# Altium footprint library BC847BPN.PcbLib: 1 footprints
Each footprint in its own frame and in the unit in brackets; x right, y up, seen from the top. Pads: shape width x height; smd on the part's side, far side on the other; paste and mask are expansions set on the pad; w line width, h text height; cw(c..) or ccw(c..) is an arc to the next point about the centre after c.
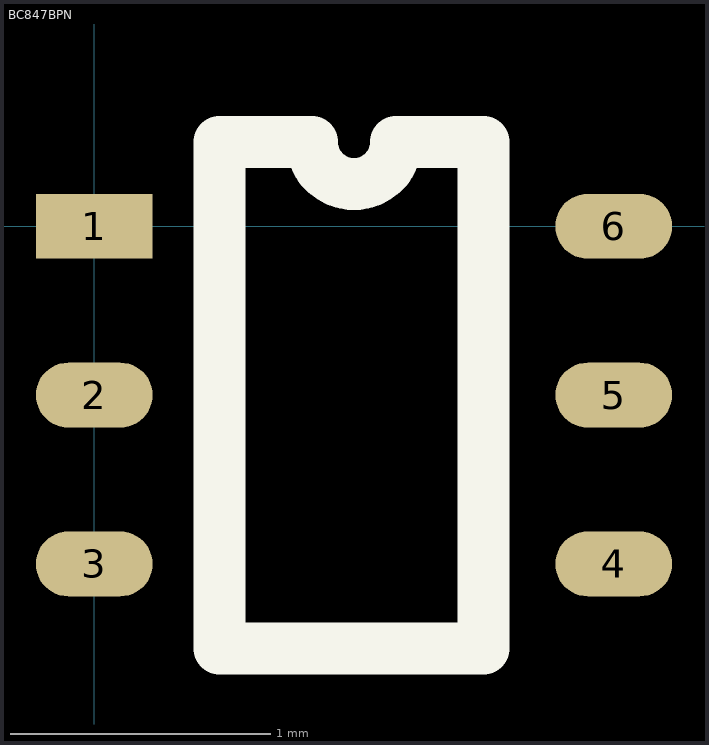
[diagram p0: the footprint, top view; thin cyan lines are the x and y axes]

## BC847BPN [mm]
pads (6):
  rect 0.45x0.25 smd: 1(0,0)
  oval 0.45x0.25 smd: 2(0,-0.65) 3(0,-1.3) 4(2,-1.3) 5(2,-0.65) 6(2,0)
Top Overlay:
  lines w0.2: 0.483,0.325 0.483,-1.625 0.915,-1.625 1.499,-1.625 1.499,-0.674 1.499,0.325 1.175,0.325 ; 0.5,0.325 0.825,0.325 ; 0.838,0.325 ccw(c1,0.325) 1.162,0.325